# EAGLE library part TPS92513 (library derek)
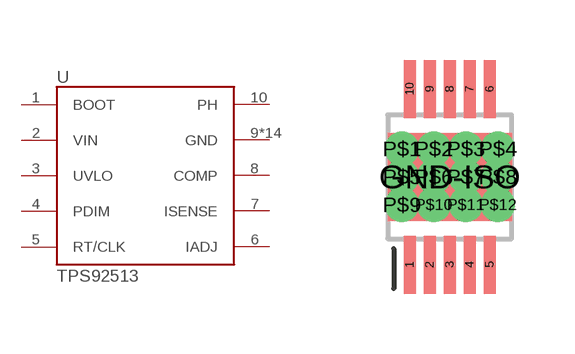
[diagram p0: symbol with the pads of TPS92513; footprint TPS92513]

Designator prefix U

## TPS92513 (DATASHEET_URL: http://www.ti.com/lit/ds/symlink/tps92513.pdf; DIGIKEY_PART_NUMBER: 296-42113-1-ND; PART_NUMBER: TPS92513DGQT)  [TPS92513]
1  BOOT  out
2  VIN  pwr
3  UVLO  in
4  PDIM  in
5  RT/CLK  in
6  IADJ  in
7  ISENSE  in
8  COMP  out
9  GND  pwr
10  PH  out
GND-ISO  GND  pwr
P$1  GND  pwr
P$2  GND  pwr
P$3  GND  pwr
P$4  GND  pwr
P$5  GND  pwr
P$6  GND  pwr
P$7  GND  pwr
P$8  GND  pwr
P$9  GND  pwr
P$10  GND  pwr
P$11  GND  pwr
P$12  GND  pwr

## TPS92513HV (DATASHEET_URL: http://www.ti.com/lit/ds/symlink/tps92513.pdf; DIGIKEY_PART_NUMBER: 296-42114-1-ND; PART_NUMBER: TPS92513HVDGQT)  [TPS92513]
Pads as for TPS92513

## Footprint TPS92513 (pad centres in mm)
smd 0.3 x 1.45: 1 -1,-2.2; 2 -0.5,-2.2; 3 0,-2.2; 4 0.5,-2.2; 5 1,-2.2; 6 1,2.2; 7 0.5,2.2; 8 0,2.2; 9 -0.5,2.2; 10 -1,2.2
smd 3.1 x 2.2: GND-ISO 0,0
drill 0.35: P$1 -1.2,0.7; P$2 -0.4,0.7; P$3 0.4,0.7; P$4 1.2,0.7; P$5 -1.2,0; P$6 -0.4,0; P$7 0.4,0; P$8 1.2,0; P$9 -1.2,-0.7; P$10 -0.4,-0.7; P$11 0.4,-0.7; P$12 1.2,-0.7